# Altium schematic symbol library SCH - POWER - LINEAR VREG - ANALOG LT1763 S8 FIXED.SCHLIB: 1 symbol
Pins are listed as number, name and electrical type; pins without a type are passive.

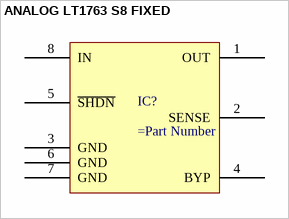
[diagram p0: symbol ANALOG LT1763 S8 FIXED]

## ANALOG LT1763 S8 FIXED
designator IC?
pins: 1 OUT, 2 SENSE, 3 GND, 4 BYP, 5 ~{SHDN}, 6 GND, 7 GND, 8 IN